# EAGLE library part ABG122032G04-FHW-R (library ABG122032G04-FHW-R)
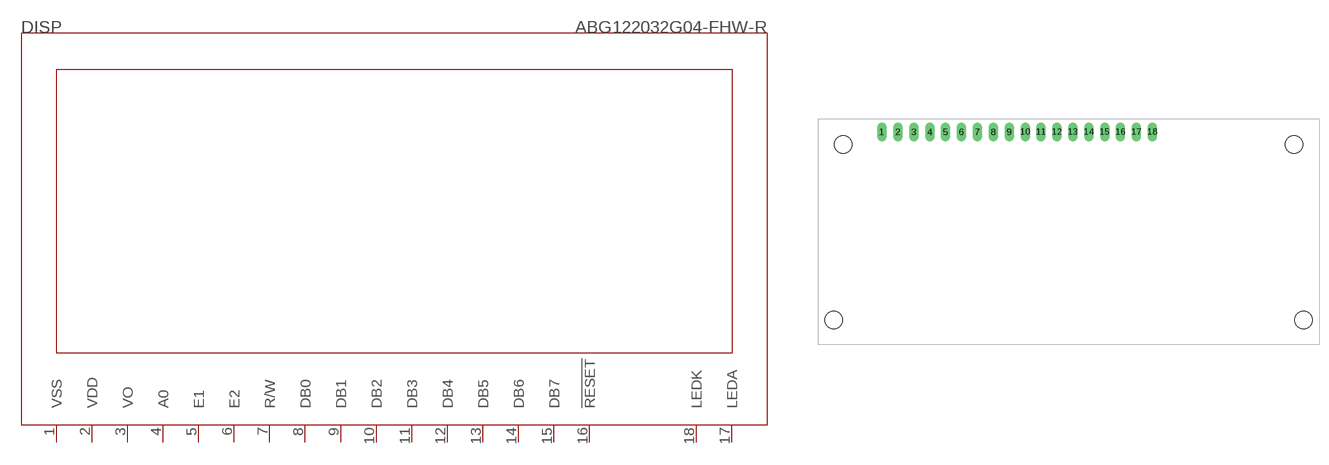
[diagram p0: symbol with the pads of DISP; footprint DISP]

Designator prefix DISP

## ABG122032G04-FHW-R  [DISP]
1  VSS
2  VDD
3  VO
4  A0
5  E1
6  E2
7  R/W
8  DB0
9  DB1
10  DB2
11  DB3
12  DB4
13  DB5
14  DB6
15  DB7
16  !RESET!
17  LEDA
18  LEDK

## Footprint DISP (pad centres in mm)
drill 1.016 long: 1 10.2,34; 2 12.74,34; 3 15.28,34; 4 17.82,34; 5 20.36,34; 6 22.9,34; 7 25.44,34; 8 27.98,34; 9 30.52,34; 10 33.06,34; 11 35.6,34; 12 38.14,34; 13 40.68,34; 14 43.22,34; 15 45.76,34; 16 48.3,34; 17 50.84,34; 18 53.38,34
hole 2.8 at 4,32
hole 2.8 at 76,32
hole 2.8 at 2.5,4
hole 2.8 at 77.5,4